# EAGLE library part MB85RS16N (library partes v2)
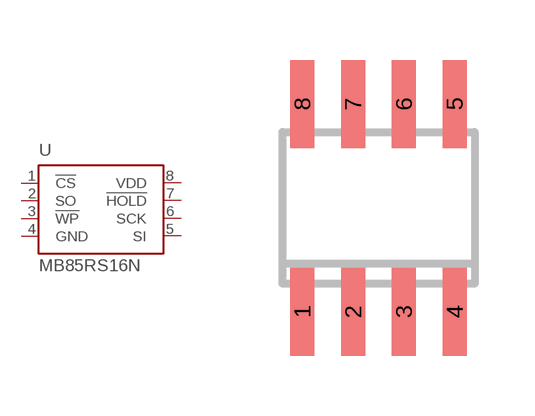
[diagram p2: symbol with the pads of SOP8; footprint SOP8]

Designator prefix U

## MB85RS16N  [SOP8]
1  !CS
2  SO
3  !WP
4  GND  pwr
5  SI
6  SCK
7  !HOLD
8  VDD  pwr

## Footprint SOP8 (pad centres in mm)
smd 0.6 x 2.2: 1 -1.905,-2.6; 2 -0.635,-2.6; 3 0.635,-2.6; 4 1.905,-2.6; 5 1.905,2.6; 6 0.635,2.6; 7 -0.635,2.6; 8 -1.905,2.6